# EAGLE library part ATP3012XX (library aquest)
-AU TQFP32/MLF32 package
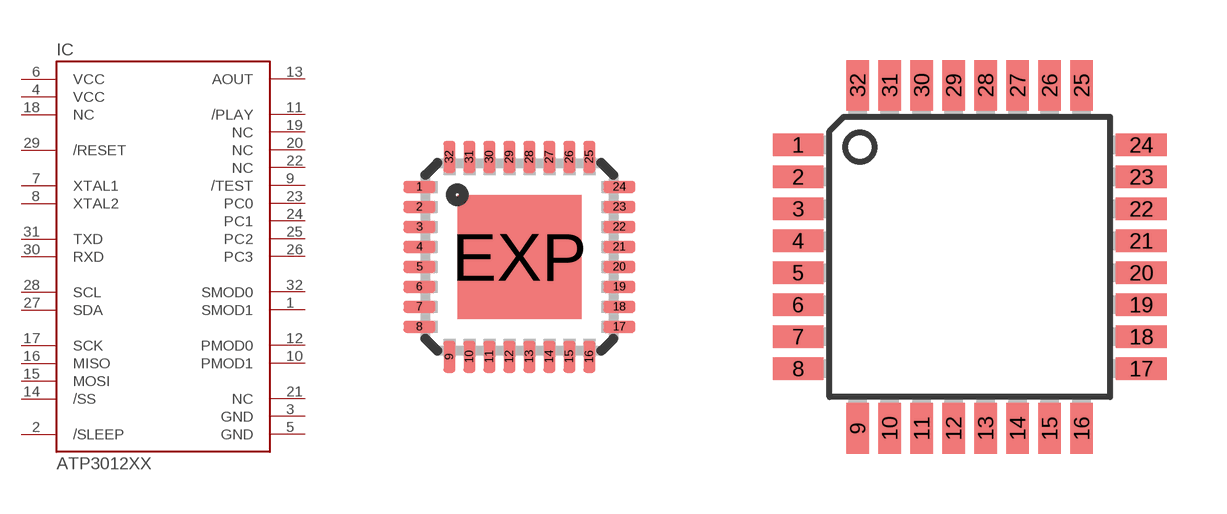
[diagram p3: symbol with the pads of MLF32; footprints MLF32, TQFP32-08]

Designator prefix IC

## ATP3012XX-MU  [MLF32]
1  SMOD1  in
2  /SLEEP  in
3  GND  pwr
4  VCC  pwr
5  GND  pwr
6  VCC  pwr
7  XTAL1  nc
8  XTAL2  nc
9  /TEST  in
10  PMOD1  in
11  /PLAY  out
12  PMOD0  in
13  AOUT  out
14  /SS  in
15  MOSI  in
16  MISO  out
17  SCK  in
18  NC  nc
19  NC  nc
20  NC  nc
21  NC  nc
22  NC  nc
23  PC0  in
24  PC1  in
25  PC2  in
26  PC3  in
27  SDA
28  SCL  in
29  /RESET  in
30  RXD  in
31  TXD  out
32  SMOD0  in

## ATP3012XX-AU  [TQFP32-08]
Pads as for MLF32

## Footprint MLF32 (pad centres in mm)
32M1-A Micro Lead Frame package (MLF)
smd 0.8 x 0.3: 1 -2.5,1.75; 2 -2.5,1.25; 3 -2.5,0.75; 4 -2.5,0.25; 5 -2.5,-0.25; 6 -2.5,-0.75; 7 -2.5,-1.25; 8 -2.5,-1.75; 17 2.5,-1.75; 18 2.5,-1.25; 19 2.5,-0.75; 20 2.5,-0.25; 21 2.5,0.25; 22 2.5,0.75; 23 2.5,1.25; 24 2.5,1.75
smd 0.3 x 0.8: 9 -1.75,-2.5; 10 -1.25,-2.5; 11 -0.75,-2.5; 12 -0.25,-2.5; 13 0.25,-2.5; 14 0.75,-2.5; 15 1.25,-2.5; 16 1.75,-2.5; 25 1.75,2.5; 26 1.25,2.5; 27 0.75,2.5; 28 0.25,2.5; 29 -0.25,2.5; 30 -0.75,2.5; 31 -1.25,2.5; 32 -1.75,2.5
smd 3.1 x 3.1: EXP 0,0

## Footprint TQFP32-08 (pad centres in mm)
Thin Plasic Quad Flat Package Grid 0.8 mm
smd 1.27 x 0.559: 1 -4.293,2.8; 2 -4.293,2; 3 -4.293,1.2; 4 -4.293,0.4; 5 -4.293,-0.4; 6 -4.293,-1.2; 7 -4.293,-2; 8 -4.293,-2.8; 17 4.293,-2.8; 18 4.293,-2; 19 4.293,-1.2; 20 4.293,-0.4; 21 4.293,0.4; 22 4.293,1.2; 23 4.293,2; 24 4.293,2.8
smd 0.559 x 1.27: 9 -2.8,-4.293; 10 -2,-4.293; 11 -1.2,-4.293; 12 -0.4,-4.293; 13 0.4,-4.293; 14 1.2,-4.293; 15 2,-4.293; 16 2.8,-4.293; 25 2.8,4.293; 26 2,4.293; 27 1.2,4.293; 28 0.4,4.293; 29 -0.4,4.293; 30 -1.2,4.293; 31 -2,4.293; 32 -2.8,4.293